# Altium footprint library Reference_Connectors.PcbLib: 5 footprints
Each footprint in its own frame and in the unit in brackets; x right, y up, seen from the top. Pads: shape width x height; smd on the part's side, far side on the other; paste and mask are expansions set on the pad; w line width, h text height; cw(c..) or ccw(c..) is an arc to the next point about the centre after c.
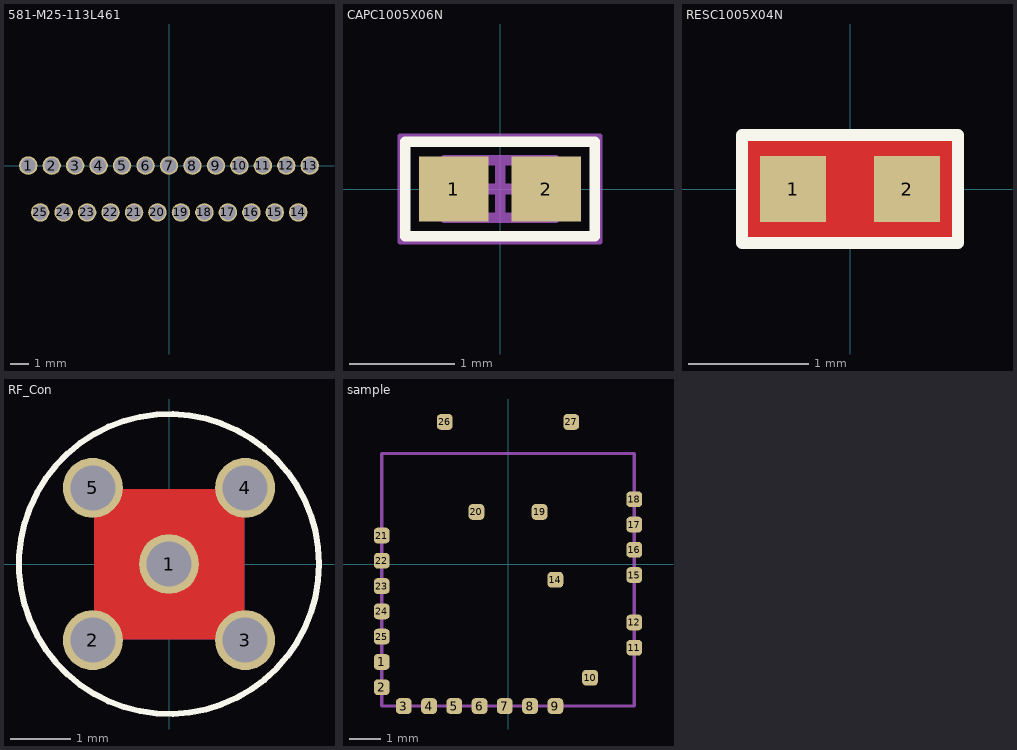
[diagram p0: the footprints below, top view; thin cyan lines are the x and y axes]

## 581-M25-113L461 [mm] "CONN MICRO-D MALE 25P RA"
pads (25):
  round 1 hole 0.8: 1(-7.62,0) 2(-6.35,0) 3(-5.08,0) 4(-3.81,0) 5(-2.54,0) 6(-1.27,0) 7(0,0) 8(1.27,0) 9(2.54,0) 10(3.81,0) 11(5.08,0) 12(6.35,0) 13(7.62,0) 14(6.997,-2.54) 15(5.727,-2.54) 16(4.457,-2.54) 17(3.187,-2.54) 18(1.917,-2.54) 19(0.647,-2.54) 20(-0.623,-2.54) 21(-1.893,-2.54) 22(-3.163,-2.54) 23(-4.433,-2.54) 24(-5.703,-2.54) 25(-6.973,-2.54)
3D body "581-M25-113L461.STEP": height 7.9, standoff -2.7, extent -15.075,-14.17 15.025,0.9

## CAPC1005X06N [mm] "Chip Capacitor, 2-Leads, Body 1.00x0.50mm, IPC Medium Density"
height 0.55
pads (2):
  rect 0.66x0.62 smd: 1(-0.44,0) 2(0.44,0)
Top Overlay:
  lines w0.1: -0.9,-0.45 0.9,-0.45 0.9,0.45 -0.9,0.45 -0.9,-0.45
Top Solder:
  pour cut-out: -1.35,0.9 1.5,0.9 1.5,-0.9 -1.35,-0.9
Mechanical 13:
  lines w0.1: -0.525,-0.275 -0.525,0.275 0.525,0.275 0.525,-0.275 -0.525,-0.275
Mechanical 15:
  lines w0.05: -0.95,-0.5 -0.95,0.5 0.95,0.5 0.95,-0.5 -0.95,-0.5
  lines w0.1: -0.275,0 0.275,0 ; 0,-0.275 0,0.275
3D body "CAPC1005X06N.step": height 0.55, standoff 0, extent -0.525,-0.275 0.525,0.275

## RESC1005X04N [mm] "Chip Resistor, 2-Leads, Body 1.00x0.50mm, IPC Medium Density"
height 0.4
pads (2):
  rect 0.55x0.55 smd: 1(-0.475,0) 2(0.475,0)
Top Layer:
  pour cut-out: -0.85,0.5 0.85,0.5 0.85,-0.5 -0.85,-0.5
Top Overlay:
  lines w0.1: -0.9,-0.45 0.9,-0.45 0.9,0.45 -0.9,0.45 -0.9,-0.45
Top Solder:
  pour cut-out: -1.275,0.85 1.225,0.85 1.225,-0.85 -1.275,-0.85
Mechanical 13:
  lines w0.1: -0.5,-0.25 0.5,-0.25 0.5,0.25 -0.5,0.25 -0.5,-0.25
Mechanical 15:
  lines w0.05: -0.9,-0.45 0.9,-0.45 0.9,0.45 -0.9,0.45 -0.9,-0.45
  lines w0.1: -0.25,0 0.25,0 ; 0,-0.25 0,0.25
3D body "RESC1005X04N.step": height 0.4, standoff 0, extent -0.5,-0.25 0.5,0.25

## RF_Con [mm]
pads (5):
  round 1 hole 0.75: 1(0,0) 2(-1.27,-1.27) 3(1.27,-1.27) 4(1.27,1.27) 5(-1.27,1.27)
Top Layer:
  pour cut-out: -1.25,1.25 1.25,1.25 1.25,-1.25 -1.25,-1.25
Bottom Layer:
  pour cut-out: -1.25,1.25 1.25,1.25 1.25,-1.25 -1.25,-1.25
Top Overlay:
  circle w0.1: c0,0 r2.5
3D body "SMP-FS-SBPCT.stp": height 3.21, standoff -5.4, extent -2.75,-2.738 2.75,2.738

## sample [mm]
pads (26):
  rrect50% 0.5x0.5 smd paste-2539.97: 1(-4,-3.1) 2(-4,-3.9) 3(-3.3,-4.5) 4(-2.5,-4.5) 5(-1.7,-4.5) 6(-0.9,-4.5) 7(-0.1,-4.5) 8(0.7,-4.5) 9(1.5,-4.5) 10(2.6,-3.6) 11(4,-2.65) 12(4,-1.85) 14(1.5,-0.5) 15(4,-0.35) 16(4,0.45) 17(4,1.25) 18(4,2.05) 19(1,1.65) 20(-1,1.65) 21(-4,0.9) 22(-4,0.1) 23(-4,-0.7) 24(-4,-1.5) 25(-4,-2.3) 26(-2,4.5) 27(2,4.5)
Mechanical 1:
  lines w0.1: -4,-4.5 4,-4.5 4,3.5 -4,3.5 -4,-4.5